# EAGLE library part TLP250 (library TLP250)
Optocoupler; THT; Out: IGBT driver; 2.5kV; DIP8; 1.5A Check availability <https://pricing.snapeda.com/parts/TLP250%28F%29/Toshiba/view-part?ref=eda>
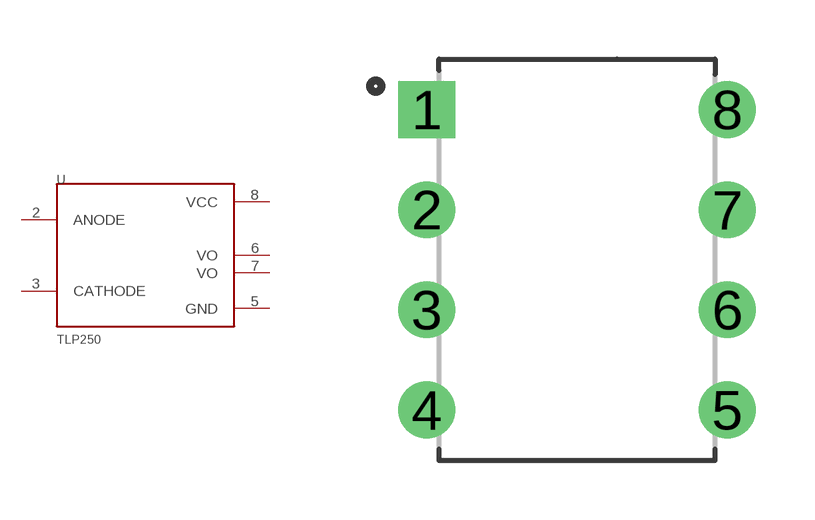
[diagram p0: symbol with the pads of DIP8; footprint DIP8]

Designator prefix U

## TLP250 (AVAILABILITY: In Stock; DESCRIPTION: 1.5A Gate Driver Optical Coupling 2500Vrms 1 Channel 8-DIP; MF: Toshiba; MP: TLP250(F); PACKAGE: DIP-8 Toshiba; PRICE: None; PURCHASE-URL: https://pricing.snapeda.com/search/part/TLP250(F)/?ref=eda)  [DIP8]
2  ANODE  pas
3  CATHODE  pas
5  GND  pwr
6  VO  out
7  VO  out
8  VCC  pwr

## Footprint DIP8 (pad centres in mm)
drill 0.93 square: 1 0.97,9.14
drill 0.93: 2 0.97,6.6; 3 0.97,4.06; 4 0.97,1.52; 5 8.59,1.52; 6 8.59,4.06; 7 8.59,6.6; 8 8.59,9.14